# EAGLE library part LTC3727A-1 (library PowerProducts)
High Efficiency, 2-Phase Synchronous Step-Down Switching Regulators
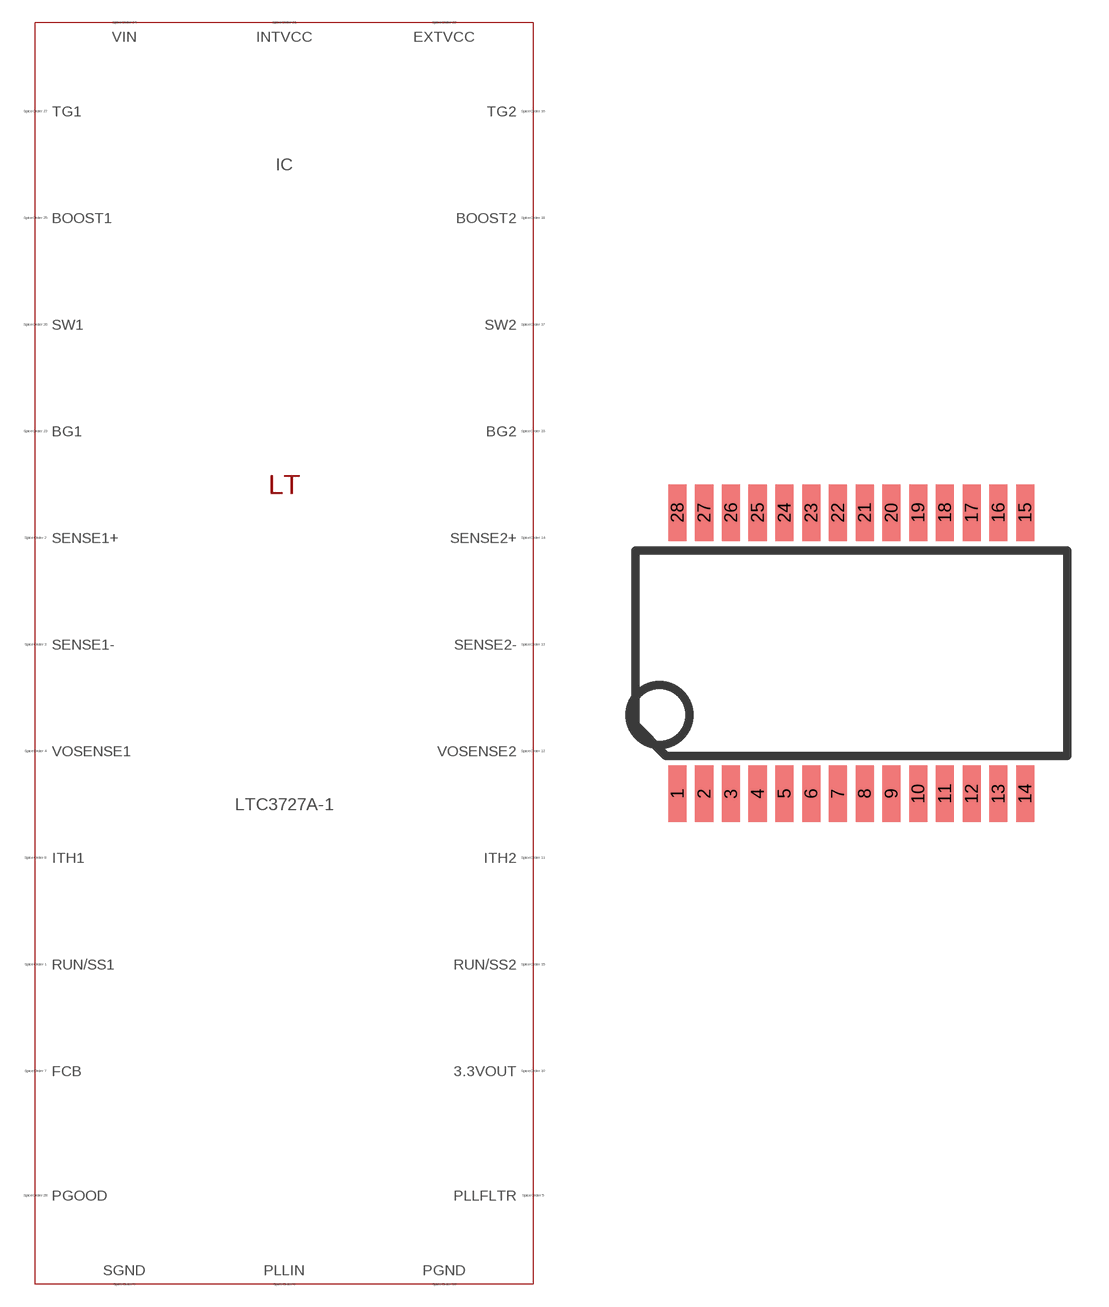
[diagram p304: symbol with the pads of SSOP28(G); footprint SSOP28(G)]

Designator prefix IC

## LTC3727A-1 (SPICEMODEL: LTC3727A-1.sub; SPICEPREFIX: X; VALUE2: LTC3727A-1)  [SSOP28(G)]
1  RUN/SS1  pas
2  SENSE1+  pas
3  SENSE1-  pas
4  VOSENSE1  pas
5  PLLFLTR  pas
6  PLLIN  pas
7  FCB  pas
8  ITH1  pas
9  SGND  pas
10  3.3VOUT  pas
11  ITH2  pas
12  VOSENSE2  pas
13  SENSE2-  pas
14  SENSE2+  pas
15  RUN/SS2  pas
16  TG2  pas
17  SW2  pas
18  BOOST2  pas
19  BG2  pas
20  PGND  pas
21  INTVCC  pas
22  EXTVCC  pas
23  BG1  pas
24  VIN  pas
25  BOOST1  pas
26  SW1  pas
27  TG1  pas
28  PGOOD  pas

## Footprint SSOP28(G) (pad centres in mm)
Package generated from: SSOP28(G).asc (!PADS-POWERPCB-V5.0-BASIC! DESIGN DATABASE ASCII FILE 1.0) with :import-pads-powerpcb-v5.ulp Version 1.0.1 at 04.10.2012 14:11:39
smd 0.66 x 2.055: 1 -6.338,-5.122; 2 -5.362,-5.122; 3 -4.388,-5.122; 4 -3.413,-5.122; 5 -2.438,-5.122; 6 -1.462,-5.122; 7 -0.487,-5.122; 8 0.487,-5.122; 9 1.462,-5.122; 10 2.438,-5.122; 11 3.413,-5.122; 12 4.388,-5.122; 13 5.362,-5.122; 14 6.338,-5.122; 15 6.338,5.122; 16 5.362,5.122; 17 4.388,5.122; 18 3.413,5.122; 19 2.438,5.122; 20 1.462,5.122; 21 0.487,5.122; 22 -0.487,5.122; 23 -1.462,5.122; 24 -2.438,5.122; 25 -3.413,5.122; 26 -4.388,5.122; 27 -5.362,5.122; 28 -6.338,5.122